# Altium schematic symbol library SCH - AMP AUDIO - ANALOG SSM2517CBZ-R7.SchLib: 1 symbol
Pins are listed as number, name and electrical type; pins without a type are passive.

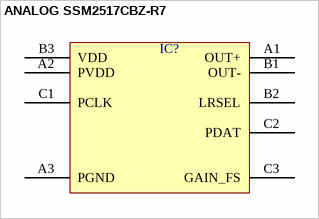
[diagram p0: symbol ANALOG SSM2517CBZ-R7]

## ANALOG SSM2517CBZ-R7
designator IC?  (value not drawn)
pins: A1 OUT+, A2 PVDD, A3 PGND, B1 OUT-, B2 LRSEL, B3 VDD, C1 PCLK, C2 PDAT, C3 GAIN_FS